# Altium footprint library XFMR_ZEMING_ZMPT107.PcbLib: 1 footprints
Each footprint in its own frame and in the unit in brackets; x right, y up, seen from the top. Pads: shape width x height; smd on the part's side, far side on the other; paste and mask are expansions set on the pad; w line width, h text height; cw(c..) or ccw(c..) is an arc to the next point about the centre after c.
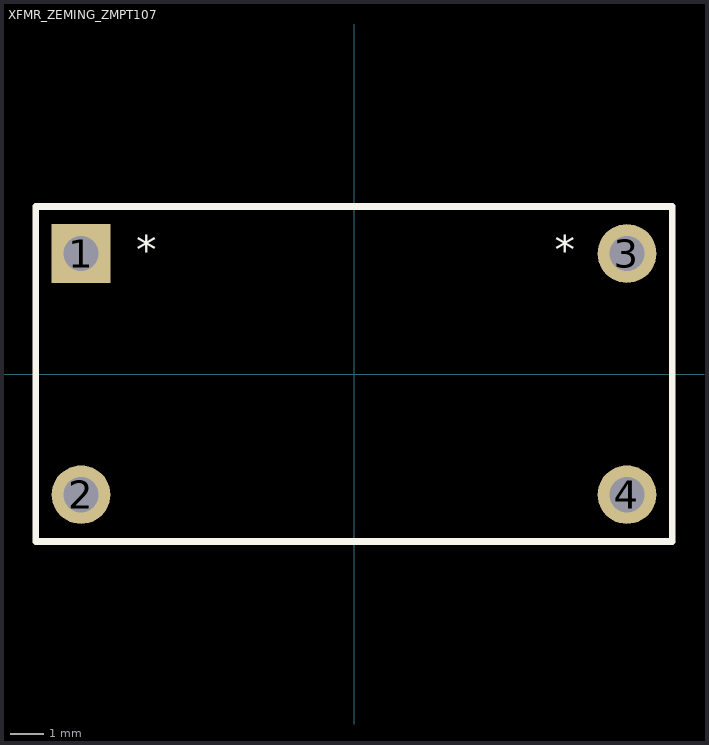
[diagram p0: the footprint, top view; thin cyan lines are the x and y axes]

## XFMR_ZEMING_ZMPT107 [mm] "Chineise Transformer"
height 18.2
pads (4):
  rect 1.75x1.75 hole 1.05: 1(-8.15,3.597)
  round 1.75 hole 1.05: 2(-8.15,-3.603) 3(8.15,3.597) 4(8.15,-3.603)
Top Overlay:
  lines w0.2: -9.5,-5 -9.5,0 -9.5,5 9.5,5 9.5,-5 -9.5,-5
  text "*" at 6,3 h1.52
  text "*" at -6.5,3 h1.52
3D body: height 18.2, standoff 0.2, extent -9.5,-5 9.5,5